# Altium schematic symbol library Schlib2.SchLib: 23 symbols
Pins are listed as number, name and electrical type; pins without a type are passive.

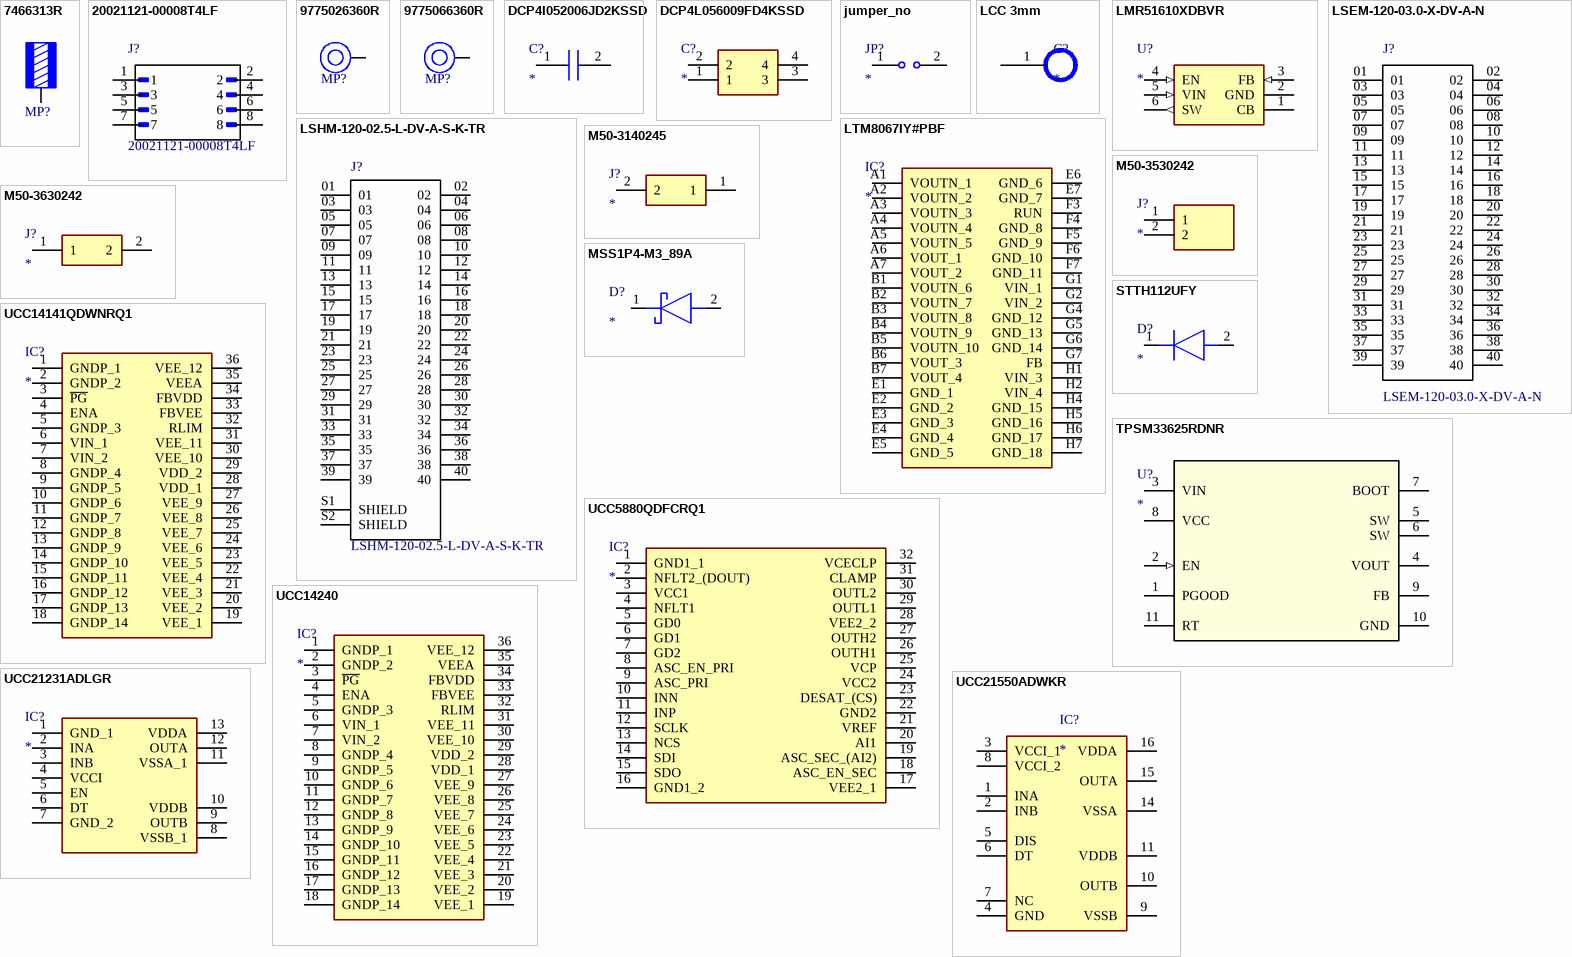
[diagram p0: symbols 7466313R to UCC21550ADWKR]

## 7466313R
designator MP?, comment M3  (value not drawn)
WP-SMRA REDCUBE SMT Right Angled with pins, M3, 50A; Manufacturer Part Number: 7466313R; Manufacturer: Wurth Elektronik; Surface: Tin; ComponentLink1Description: Website Link; ComponentLink1URL: https://www.we-online.com/redexpert/article/7466313R?ad; ComponentLink2Description: Datasheet Link; ComponentLink2URL: https://www.we-online.com/redexpert/spec/7466313R?ad; Category: REDCUBE SMT; Match Code: WP-SMRA; Mount: Surface Mount; Operating Temperature Max: 150°C; Operating Temperature Min: -55°C; Packaging: Tape and Reel; Height: 7mm; Material: Brass; Rated Current: 50A; Thread Size: M3
footprint 7466313 (SMD Terminal Right Angled with Pins, Thread M3, Length 5.5mm)
pins: 1

## 20021121-00008T4LF
designator J?
Value: *
footprint *AMPHENOL_20021121-00008T4LF
pins: 1, 2, 3, 4, 5, 6, 7, 8

## 9775026360R
designator MP?, comment M3 x 2.6mm  (value not drawn)
WA-SMSR SMT Steel Spacer Reverse, M3 x 2.6mm; Manufacturer Part Number: 9775026360R; Manufacturer: Wurth Elektronik; Inside Diameter: 4.2mm; Outside Diameter: 6mm; Surface: Tin; ComponentLink1Description: Website Link; ComponentLink1URL: https://www.we-online.com/redexpert/article/9775026360R?ad; ComponentLink2Description: Datasheet Link; ComponentLink2URL: https://www.we-online.com/redexpert/spec/9775026360R?ad; Category: SMT Spacers; Match Code: WA-SMSR; Mount: Surface Mount; Operating Temperature Max: 150°C; Operating Temperature Min: -55°C; Packaging: Tape and Reel; Material: Steel; Pin Length: 2.6mm; Thread Size: M3
footprint 9775026360
pins: 1

## 9775066360R
designator MP?, comment M3 x 6.6mm  (value not drawn)
WA-SMSR SMT Steel Spacer Reverse, M3 x 6.6mm; Manufacturer Part Number: 9775066360R; Manufacturer: Wurth Elektronik; Inside Diameter: 4.2mm; Outside Diameter: 6mm; Surface: Tin; ComponentLink1Description: Website Link; ComponentLink1URL: https://www.we-online.com/redexpert/article/9775066360R?ad; ComponentLink2Description: Datasheet Link; ComponentLink2URL: https://www.we-online.com/redexpert/spec/9775066360R?ad; Category: SMT Spacers; Match Code: WA-SMSR; Mount: Surface Mount; Operating Temperature Max: 150°C; Operating Temperature Min: -55°C; Packaging: Tape and Reel; Material: Steel; Pin Length: 6.6mm; Thread Size: M3
footprint 9775066360 (SMD Steel Spacer M3 Thread Internal, Pin Length 6.6mm)
pins: 1

## DCP4I052006JD2KSSD
designator C?
Capacitor; Manufacturer_Name: WIMA; Manufacturer_Part_Number: DCP4I052006JD2KSSD; Datasheet Link: https://componentsearchengine.com/Datasheets/1/DCP4I052006JD2KSSD.pdf; Height: 39.5mm; Mouser Part Number: 505-DCP4-20/600/10L; Mouser Price/Stock: https://www.mouser.co.uk/ProductDetail/WIMA/DCP4I052006JD2KSSD?qs=DFPBcxnBxXhYp1JaD3hrqg%3D%3D
footprint DCP4I052006JD2KSSD
footprint DCP4I052006JD2KSSD
pins: 1, 2

## DCP4L056009FD4KSSD
designator C?
Capacitor; Manufacturer_Name: WIMA; Manufacturer_Part_Number: DCP4L056009FD4KSSD; Datasheet Link: https://componentsearchengine.com/Datasheets/1/DCP4L056009FD4KSSD.pdf; Height: 50mm; Mouser Part Number: 505-DCP4L056009FD4KS; Mouser Price/Stock: https://www.mouser.com/Search/Refine.aspx?Keyword=505-DCP4L056009FD4KS
footprint DCP4L056009FD4KSSD
pins: 1, 2, 3, 4

## jumper_no
designator JP?
footprint jumper_no
pins: 1, 2

## LCC 3mm
designator C?
footprint PAD 3MM - duplicate
pins: 1

## LMR51610XDBVR
designator U?
SIMPLE SWITCHER&reg; 4.5-V to 65-V, 1-A synchronous buck converter with 25-&micro;A&nbsp;IQ; MF: Texas Instruments; MP: LMR51610XDBVR; SnapEDA_Link: https://www.snapeda.com/parts/LMR51610XDBVR/Texas+Instruments/view-part/?ref=snap; Package: None; Value: *; Check_prices: https://www.snapeda.com/parts/LMR51610XDBVR/Texas+Instruments/view-part/?ref=eda
footprint SOT95P280X145-6N
pins: 1 CB (power), 2 GND (power), 3 FB (in), 4 EN (in), 5 VIN (in), 6 SW (out)

## LSEM-120-03.0-X-DV-A-N
designator J?
Value: *
footprint *SAMTEC_LSEM-120-03.0-X-DV-A-N_LSEM-120-03.0-X-DV-A-N(Primary)
pins: 01, 02, 03, 04, 05, 06, 07, 08, 09, 10, 11, 12, 13, 14, 15, 16, 17, 18, 19, 20, 21, 22, 23, 24, 25, 26, 27, 28, 29, 30, 31, 32, 33, 34, 35, 36, 37, 38, 39, 40

## LSHM-120-02.5-L-DV-A-S-K-TR
designator J?
Value: *
footprint *SAMTEC_LSHM-120-02.5-L-DV-A-S-K-TR_LSHM-120-02.5-L-DV-A-S-K-TR(Primary)
pins: 01, 02, 03, 04, 05, 06, 07, 08, 09, 10, 11, 12, 13, 14, 15, 16, 17, 18, 19, 20, 21, 22, 23, 24, 25, 26, 27, 28, 29, 30, 31, 32, 33, 34, 35, 36, 37, 38, 39, 40, S1 SHIELD, S2 SHIELD

## LTM8067IY#PBF
designator IC?
Integrated Circuit; Manufacturer_Name: Analog Devices; Manufacturer_Part_Number: LTM8067IY#PBF; Datasheet Link: https://datasheet.datasheetarchive.com/originals/distributors/DKDS-39/7839.pdf; Height: 5.12mm; Mouser Part Number: 584-LTM8067IY#PBF; Mouser Price/Stock: https://www.mouser.co.uk/ProductDetail/Analog-Devices/LTM8067IYPBF?qs=oahfZPh6IAIcF9XmCBQhkQ%3D%3D; Arrow Part Number: LTM8067IY#PBF; Arrow Price/Stock: https://www.arrow.com/en/products/ltm8067iypbf/analog-devices?region=nac
footprint BGA38C127P7X8_900X1125X512
footprint BGA38C127P7X8_900X1125X512
pins: A1 VOUTN_1, A2 VOUTN_2, A3 VOUTN_3, A4 VOUTN_4, A5 VOUTN_5, A6 VOUT_1, A7 VOUT_2, B1 VOUTN_6, B2 VOUTN_7, B3 VOUTN_8, B4 VOUTN_9, B5 VOUTN_10, B6 VOUT_3, B7 VOUT_4, E1 GND_1, E2 GND_2, E3 GND_3, E4 GND_4, E5 GND_5, E6 GND_6, E7 GND_7, F3 RUN, F4 GND_8, F5 GND_9, F6 GND_10, F7 GND_11, G1 VIN_1, G2 VIN_2, G4 GND_12, G5 GND_13, G6 GND_14, G7 FB, H1 VIN_3, H2 VIN_4, H4 GND_15, H5 GND_16, H6 GND_17, H7 GND_18

## M50-3140245
designator J?
Connector; Manufacturer_Name: Harwin; Manufacturer_Part_Number: M50-3140245; Datasheet Link: https://componentsearchengine.com/Datasheets/1/M50-3140245.pdf; Height: 3.6mm; Mouser Part Number: 855-M50-3140245; Mouser Price/Stock: https://www.mouser.co.uk/ProductDetail/Harwin/M50-3140245?qs=%252BdQmOuGyFcEdctCQD%252BcFMQ%3D%3D
footprint M503140245
pins: 1, 2

## M50-3530242
designator J?
Connector; Manufacturer_Name: Harwin; Manufacturer_Part_Number: M50-3530242; Datasheet Link: https://cdn.harwin.com/pdfs/M50-353.pdf; Height: 4.2mm; Mouser Part Number: 855-M50-3530242; Mouser Price/Stock: https://www.mouser.co.uk/ProductDetail/Harwin/M50-3530242?qs=%252BdQmOuGyFcFfqfwYQe%2FxZw%3D%3D
footprint HDRV2W40P0X127_1X2_254X210X420P
pins: 1, 2

## M50-3630242
designator J?
Connector; Manufacturer_Name: Harwin; Manufacturer_Part_Number: M50-3630242; Datasheet Link: https://cdn.harwin.com/pdfs/M50-363.pdf; Height: 4.95mm; Mouser Part Number: 855-M50-3630242; Mouser Price/Stock: https://www.mouser.co.uk/ProductDetail/Harwin/M50-3630242?qs=%252BdQmOuGyFcGm5KVXDM4yoQ%3D%3D
footprint M503630242
pins: 1, 2

## MSS1P4-M3_89A
designator D?
Schottky Diode; Manufacturer_Name: Vishay; Manufacturer_Part_Number: MSS1P4-M3/89A; Datasheet Link: https://www.vishay.com/docs/89019/mss1p4.pdf; Mouser Part Number: 625-MSS1P4-M3; Mouser Price/Stock: https://www.mouser.co.uk/ProductDetail/Vishay-General-Semiconductor/MSS1P4-M3-89A?qs=fLSHF8TigmUkO6GnwlXAxQ%3D%3D; Arrow Part Number: MSS1P4-M3/89A; Arrow Price/Stock: https://www.arrow.com/en/products/mss1p4-m389a/vishay?utm_currency=USD&region=nac
footprint MICROSMP
footprint MICROSMP
pins: 1 K, 2 A

## STTH112UFY
designator D?
Diode; Manufacturer_Name: STMicroelectronics; Manufacturer_Part_Number: STTH112UFY; Datasheet Link: https://www.st.com/resource/en/datasheet/stth112-y.pdf; Height: 1.1mm; Mouser Part Number: 511-STTH112UFY; Mouser Price/Stock: https://www.mouser.co.uk/ProductDetail/STMicroelectronics/STTH112UFY?qs=DqCdCwOw4%2F7HJr4wLNNIMw%3D%3D; Arrow Part Number: STTH112UFY; Arrow Price/Stock: https://www.arrow.com/en/products/stth112ufy/stmicroelectronics?region=europe
footprint DIOM5436X110N
footprint DIOM5436X110N
pins: 1 K, 2 A

## TPSM33625RDNR
designator U?
No Description Available; Mfr_Name: Texas Instruments; TYPE: TYPE; RefDes: RefDes
footprint RDN0011A-MFG
pins: 1 PGOOD (oc), 2 EN (in), 3 VIN (power), 4 VOUT (power), 5 SW, 6 SW, 7 BOOT, 8 VCC, 9 FB, 10 GND (power), 11 RT

## UCC5880QDFCRQ1
designator IC?
Integrated Circuit; Manufacturer_Name: Texas Instruments; Manufacturer_Part_Number: UCC5880QDFCRQ1; Datasheet Link: https://www.ti.com/lit/ds/symlink/ucc5880-q1.pdf?ts=1715440637057&ref_url=https%253A%252F%252Fwww.google.com%252F; Height: 2.65mm; Mouser Part Number: 595-UCC5880QDFCRQ1; Mouser Price/Stock: https://www.mouser.co.uk/ProductDetail/Texas-Instruments/UCC5880QDFCRQ1?qs=jRuttqqUwMTjFtikQ1zamg%3D%3D; Arrow Part Number: UCC5880QDFCRQ1; Arrow Price/Stock: https://www.arrow.com/en/products/ucc5880qdfcrq1/texas-instruments?utm_currency=USD&region=nac
footprint SOP60P1030X265-32N
footprint SOP60P1030X265-32N
pins: 1 GND1_1, 2 NFLT2_(DOUT), 3 VCC1, 4 NFLT1, 5 GD0, 6 GD1, 7 GD2, 8 ASC_EN_PRI, 9 ASC_PRI, 10 INN, 11 INP, 12 SCLK, 13 NCS, 14 SDI, 15 SDO, 16 GND1_2, 17 VEE2_1, 18 ASC_EN_SEC, 19 ASC_SEC_(AI2), 20 AI1, 21 VREF, 22 GND2, 23 DESAT_(CS), 24 VCC2, 25 VCP, 26 OUTH1, 27 OUTH2, 28 VEE2_2, 29 OUTL1, 30 OUTL2, 31 CLAMP, 32 VCECLP

## UCC14141QDWNRQ1
designator IC?
Integrated Circuit; Manufacturer_Name: Texas Instruments; Manufacturer_Part_Number: UCC14141QDWNRQ1; Datasheet Link: https://www.ti.com/lit/ds/symlink/ucc14141-q1.pdf?ts=1698771279569&ref_url=https%253A%252F%252Fwww.ti.com%252Fsitesearch%252Fen-us%252Fdocs%252Funiversalsearch.tsp%253FlangPref%253Den-US%2526searchTerm%253DUCC14141QDWNRQ1%2526nr%253D3; Height: 3.55mm; Mouser Part Number: 595-UCC14141QDWNRQ1; Mouser Price/Stock: https://www.mouser.co.uk/ProductDetail/Texas-Instruments/UCC14141QDWNRQ1?qs=HoCaDK9Nz5fMbqXhrb3e4A%3D%3D; Arrow Part Number: UCC14141QDWNRQ1; Arrow Price/Stock: https://www.arrow.com/en/products/ucc14141qdwnrq1/texas-instruments?utm_currency=USD&region=nac
footprint SOP65P1030X355-36N
footprint SOP65P1030X355-36N
pins: 1 GNDP_1, 2 GNDP_2, 3 ~{PG}, 4 ENA, 5 GNDP_3, 6 VIN_1, 7 VIN_2, 8 GNDP_4, 9 GNDP_5, 10 GNDP_6, 11 GNDP_7, 12 GNDP_8, 13 GNDP_9, 14 GNDP_10, 15 GNDP_11, 16 GNDP_12, 17 GNDP_13, 18 GNDP_14, 19 VEE_1, 20 VEE_2, 21 VEE_3, 22 VEE_4, 23 VEE_5, 24 VEE_6, 25 VEE_7, 26 VEE_8, 27 VEE_9, 28 VDD_1, 29 VDD_2, 30 VEE_10, 31 VEE_11, 32 RLIM, 33 FBVEE, 34 FBVDD, 35 VEEA, 36 VEE_12

## UCC14240
designator IC?
Integrated Circuit; Manufacturer_Name: Texas Components; Manufacturer_Part_Number: UCC14240; Datasheet Link: https://www.ti.com/lit/gpn/ucc14240-q1; Height: 3.55mm
footprint SOP65P1030X355-36N
footprint SOP65P1030X355-36N
pins: 1 GNDP_1, 2 GNDP_2, 3 ~{PG}, 4 ENA, 5 GNDP_3, 6 VIN_1, 7 VIN_2, 8 GNDP_4, 9 GNDP_5, 10 GNDP_6, 11 GNDP_7, 12 GNDP_8, 13 GNDP_9, 14 GNDP_10, 15 GNDP_11, 16 GNDP_12, 17 GNDP_13, 18 GNDP_14, 19 VEE_1, 20 VEE_2, 21 VEE_3, 22 VEE_4, 23 VEE_5, 24 VEE_6, 25 VEE_7, 26 VEE_8, 27 VEE_9, 28 VDD_1, 29 VDD_2, 30 VEE_10, 31 VEE_11, 32 RLIM, 33 FBVEE, 34 FBVDD, 35 VEEA, 36 VEE_12

## UCC21231ADLGR
designator IC?
Integrated Circuit; Manufacturer_Name: Texas Instruments; Manufacturer_Part_Number: UCC21231ADLGR; Datasheet Link: https://www.ti.com/lit/ds/symlink/ucc21231.pdf?ts=1731597701559; Height: 0.8mm; Mouser Part Number: 595-UCC21231ADLGR; Mouser Price/Stock: https://www.mouser.co.uk/ProductDetail/Texas-Instruments/UCC21231ADLGR?qs=olJun0bQHM9Y3YXRbloySw%3D%3D; Arrow Part Number: UCC21231ADLGR; Arrow Price/Stock: https://www.arrow.com/en/products/ucc21231adlgr/texas-instruments?utm_currency=USD&region=nac
footprint UCC21231ADLGR
pins: 1 GND_1, 2 INA, 3 INB, 4 VCCI, 5 EN, 6 DT, 7 GND_2, 8 VSSB_1, 9 OUTB, 10 VDDB, 11 VSSA_1, 12 OUTA, 13 VDDA

## UCC21550ADWKR
designator IC?
Integrated Circuit; Manufacturer_Name: Texas Instruments; Manufacturer_Part_Number: UCC21550ADWKR; Datasheet Link: https://www.ti.com/lit/gpn/UCC21550; Height: 2.65mm; Mouser Part Number: 595-UCC21550ADWKR; Mouser Price/Stock: https://www.mouser.co.uk/ProductDetail/Texas-Instruments/UCC21550ADWKR?qs=IKkN%2F947nfBAXILs21qR6A%3D%3D; Arrow Part Number: UCC21550ADWKR; Arrow Price/Stock: https://www.arrow.com/en/products/ucc21550adwkr/texas-instruments?utm_currency=USD&region=nac
footprint UCC21550ADWKR
pins: 1 INA, 2 INB, 3 VCCI_1, 4 GND, 5 DIS, 6 DT, 7 NC, 8 VCCI_2, 9 VSSB, 10 OUTB, 11 VDDB, 14 VSSA, 15 OUTA, 16 VDDA